# Altium footprint library switchboard_misc.PcbLib: 2 footprints
Each footprint in its own frame and in the unit in brackets; x right, y up, seen from the top. Pads: shape width x height; smd on the part's side, far side on the other; paste and mask are expansions set on the pad; w line width, h text height; cw(c..) or ccw(c..) is an arc to the next point about the centre after c.
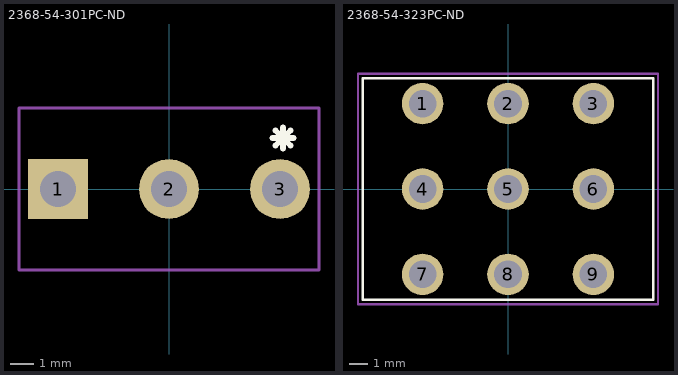
[diagram p0: the footprints below, top view; thin cyan lines are the x and y axes]

## 2368-54-301PC-ND [mil]
pads (3):
  rect 100x100 hole 60: 1(-185,0)
  round 100 hole 60: 2(0,0) 3(185,0)
Top Overlay:
  lines w10: 172.5,85 207.5,85 ; 177.5,72.5 202.5,97.5 ; 177.5,97.5 202.5,72.5 ; 190,67.5 190,102.5
Mechanical 7:
  lines w5: -250,-135 250,-135 250,135 -250,135 -250,-135

## 2368-54-323PC-ND [mil]
pads (9):
  round 90 hole 60: 1(-185,185) 2(0,185) 3(185,185) 4(-185,0) 5(0,0) 6(185,0) 7(-185,-185) 8(0,-185) 9(185,-185)
Top Overlay:
  lines w5: -315,-240 315,-240 315,240 -315,240 -315,-240
Mechanical 7:
  lines w5: -325,-250 325,-250 325,250 -325,250 -325,-250